# EAGLE library part SR086 (library BaseApp)
Digikey No:-__SR086SG-GCT-ND__
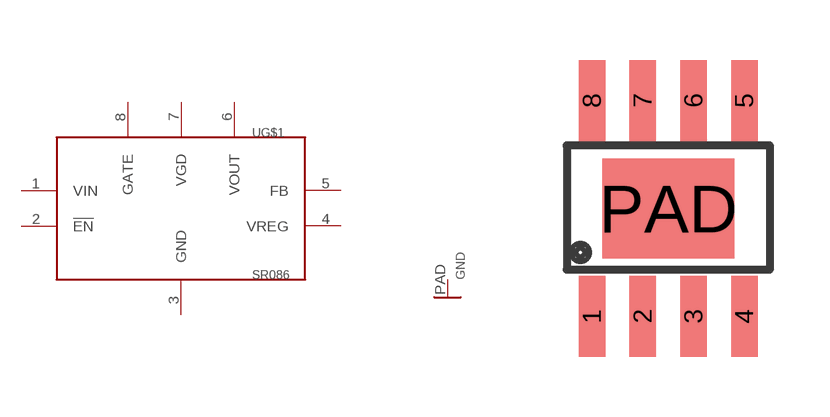
[diagram p107: symbol with the pads of SOIC-8-HEAT_SLUG; footprint SOIC-8-HEAT_SLUG]

Designator prefix -; gates G$1=SR086 G$2=GND

## SR086  [SOIC-8-HEAT_SLUG]
1  G$1:VIN
2  G$1:!EN
3  G$1:GND
4  G$1:VREG
5  G$1:FB
6  G$1:VOUT
7  G$1:VGD
8  G$1:GATE
PAD  G$2:GND  sup

## Footprint SOIC-8-HEAT_SLUG (pad centres in mm)
smd 0.66 x 2.032: 1 -1.905,-2.7; 2 -0.635,-2.7; 3 0.635,-2.7; 4 1.905,-2.7; 5 1.905,2.7; 6 0.635,2.7; 7 -0.635,2.7; 8 -1.905,2.7
smd 3.3 x 2.5: PAD 0,0